# Altium schematic symbol library Transmitter_PCB.SchLib: 5 symbols
Pins are listed as number, name and electrical type; pins without a type are passive.

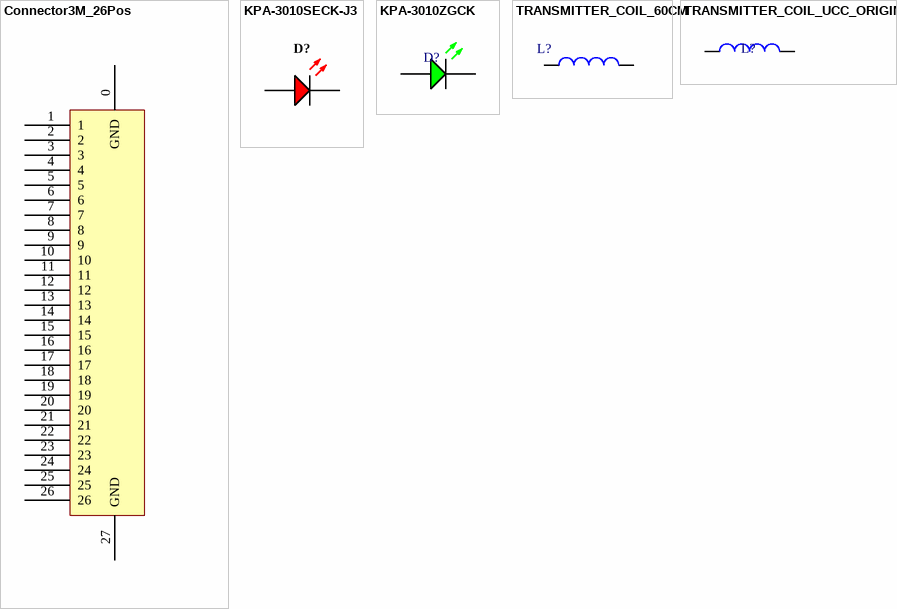
[diagram p0: symbols Connector3M_26Pos to TRANSMITTER_COIL_UCC_ORIGINAL]

## Connector3M_26Pos
designator P?
Published: 8-Jun-2000; LatestRevisionDate: 23-02-1017; LatestRevisionNote: IPC-7351 Footprint Added.; PackageReference: J1-0603; Publisher: Altium Limited; PackageDescription: Connector
footprint Connector_3M_26Pos
pins: 0 GND, 1, 2, 3, 4, 5, 6, 7, 8, 9, 10, 11, 12, 13, 14, 15, 16, 17, 18, 19, 20, 21, 22, 23, 24, 25, 26, 27 GND

## KPA-3010SECK-J3
designator D?
KINGBRIGHT - KPA-3010SECK-J3 - LED, 1104, RIGHT AN., RED, 380MCD; Supplier 1: Farnell; Manufacturer: KINGBRIGHT; Manufacturer Part Number: KPA-3010SECK-J3; RoHS: YES; Stock 1: 16201; Pricing 1: 1=0.274, 10=0.249, 50=0.23, 100=0.212, 250=0.202, 500=0.193, 900=0.187, 3000=0.181 (EUR); ComponentLink1URL: http://www.farnell.com/datasheets/2045660.pdf; ComponentLink1Description: http://www.farnell.com/datasheets/2045660.pdf; Supplier Part Number 1: 2335820
footprint KING-LED2107-13-RED-2_V (LED, Right Angle SMT, 2.1x0.7mm, 1.3mm Thickness, Pad 1 Cathode)
pins: 1 K, 2 A

## KPA-3010ZGCK
designator D?  (value not drawn)
KINGBRIGHT - KPA-3010ZGCK - LED, 3MM, GREEN, 300MCD, 525NM; Supplier 1: Farnell; Manufacturer: KINGBRIGHT; Manufacturer Part Number: KPA-3010ZGCK; RoHS: YES; Stock 1: 1377; Pricing 1: 1=0.285, 10=0.26, 50=0.241, 100=0.222, 500=0.209, 900=0.2, 3000=0.194, 9000=0.187 (EUR); ComponentLink1URL: http://www.farnell.com/datasheets/2045683.pdf; ComponentLink1Description: http://www.farnell.com/datasheets/2045683.pdf; Supplier Part Number 1: 2373514
footprint KING-LED2107-13-RED-2_V (LED, Right Angle SMT, 2.1x0.7mm, 1.3mm Thickness, Pad 1 Cathode)
pins: 1 K, 2 A

## TRANSMITTER_COIL_60CM
designator L?
TRANSMITTER_COIL_60CM
footprint TRANSMITTER_COIL_UCC_60CM
pins: 1, 2

## TRANSMITTER_COIL_UCC_ORIGINAL
designator L?
TRANSMITTER_COIL_UCC_ORIGINAL
footprint TRANSMITTER_COIL_UCC_ORIGINAL (Original 70mm coil, 0.5mm trace width, 0.25mm separation)
pins: 1, 2